# Altium footprint library Oscillator.PcbLib: 70 footprints (part 3 of 5)
Each footprint in its own frame and in the unit in brackets; x right, y up, seen from the top. Pads: shape width x height; smd on the part's side, far side on the other; paste and mask are expansions set on the pad; w line width, h text height; cw(c..) or ccw(c..) is an arc to the next point about the centre after c.
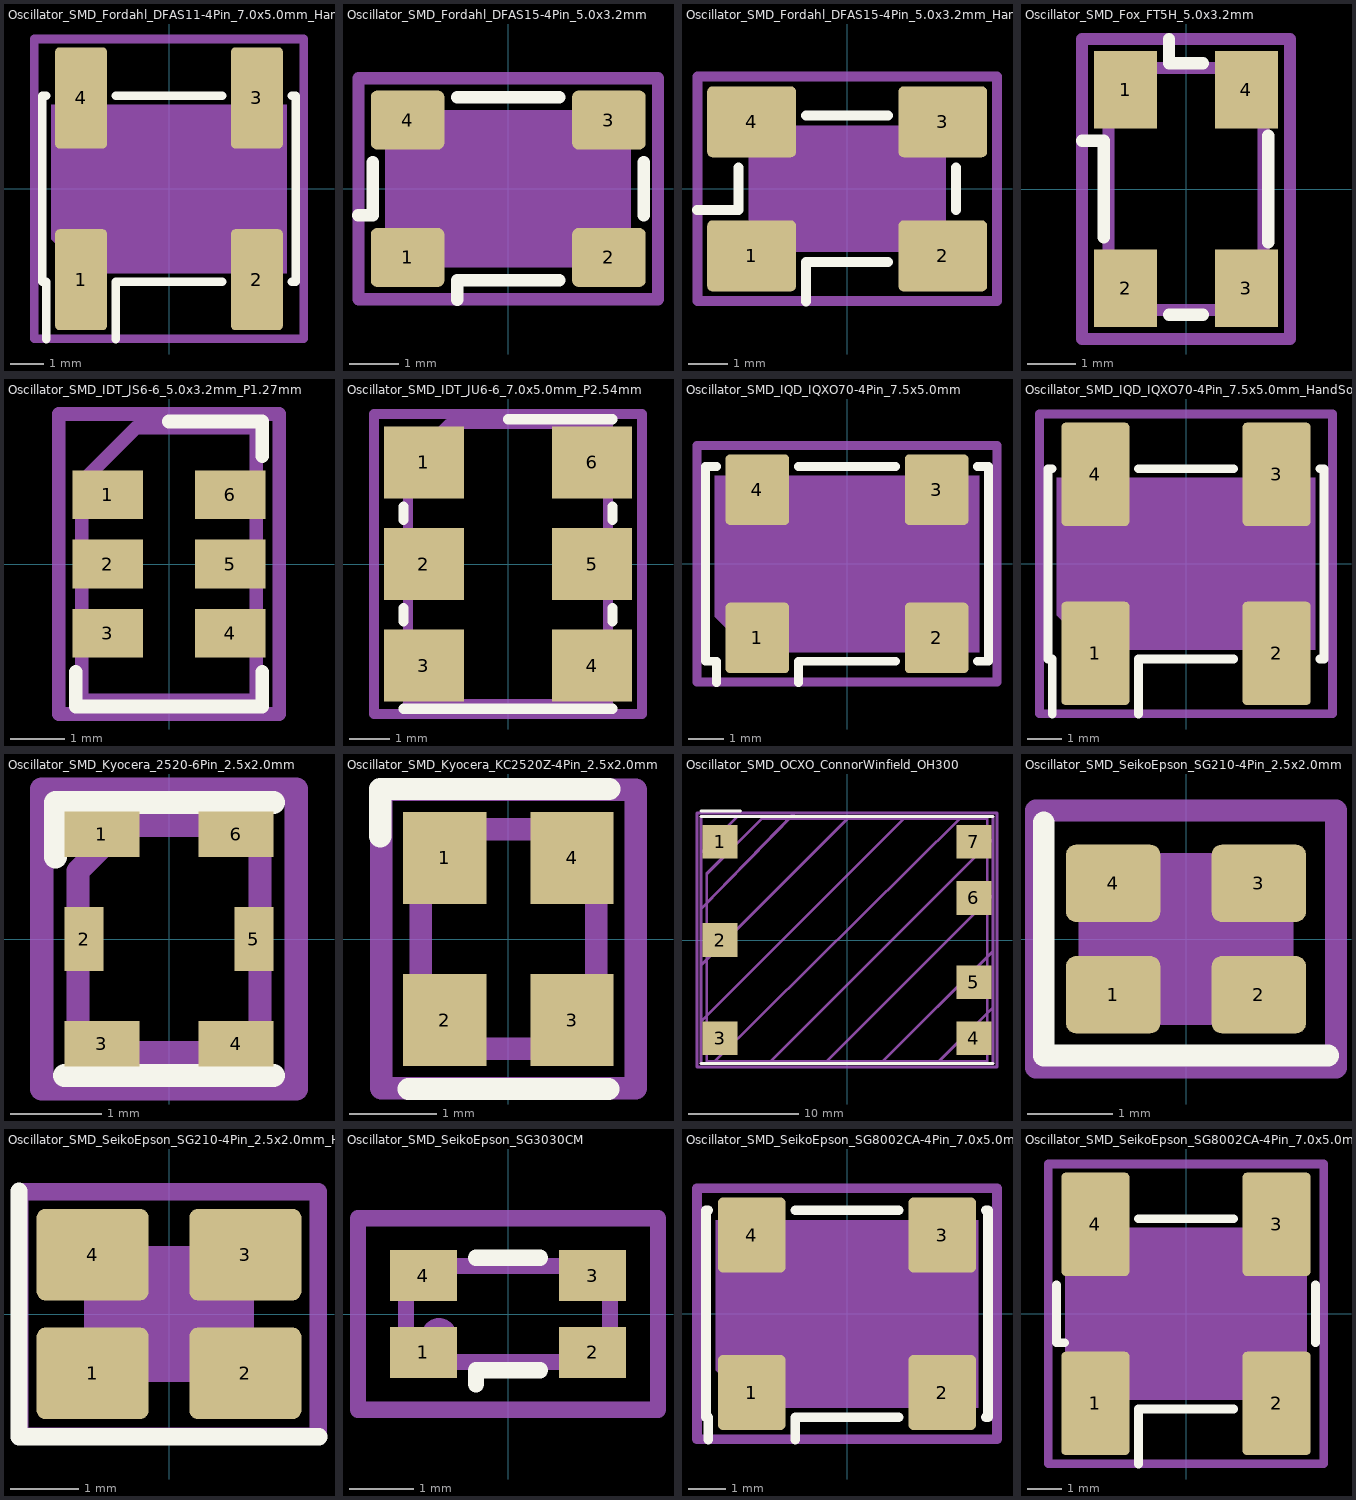
[diagram p2: the footprints below, top view; thin cyan lines are the x and y axes]

## Oscillator_SMD_Fordahl_DFAS11-4Pin_7.0x5.0mm_HandSoldering [mm]
pads (4):
  rrect16% 1.54x3 smd: 1(-2.61,-2.7) 2(2.61,-2.7) 3(2.61,2.7) 4(-2.61,2.7)
F.SilkS:
  lines w0.254: -3.64,-4.46 -3.64,-2.76 -3.76,-2.76 -3.76,2.76 -3.64,2.76 ; -1.58,-4.46 -1.58,-2.76 1.58,-2.76 ; -1.58,2.76 1.58,2.76 ; 3.64,-2.76 3.76,-2.76 3.76,2.76 3.64,2.76
Top Assembly:
  region: 3.5,-2.5 -2.5,-2.5 -3.5,-1.5 -3.5,2.5 3.5,2.5
  text "'.Designator'" at -4.047,-0.84 h1
Top Courtyard:
  lines w0.254: -4,-4.45 4,-4.45 4,4.45 -4,4.45 -4,-4.45
Top Designator:
  text ".Designator" at -7.652,-0.513 h1.52
Top Glue Points:
  circle w0.254: c0,0 r1

## Oscillator_SMD_Fordahl_DFAS15-4Pin_5.0x3.2mm [mm]
pads (4):
  rrect21% 1.5x1.2 smd: 1(-2.05,-1.4) 2(2.05,-1.4) 3(2.05,1.4) 4(-2.05,1.4)
F.SilkS:
  lines w0.254: -3.06,-0.54 -2.76,-0.54 -2.76,0.54 ; -1.04,-2.26 -1.04,-1.86 1.04,-1.86 ; -1.04,1.86 1.04,1.86 ; 2.76,-0.54 2.76,0.54
Top Assembly:
  region: 2.5,-1.6 -1.7,-1.6 -2.5,-0.8 -2.5,1.6 2.5,1.6
  text "'.Designator'" at -4.047,-0.84 h1
Top Courtyard:
  lines w0.254: -3.05,-2.25 3.05,-2.25 3.05,2.25 -3.05,2.25 -3.05,-2.25
Top Designator:
  text ".Designator" at -7.768,-0.513 h1.52
Top Glue Points:
  circle w0.254: c0,0 r0.25

## Oscillator_SMD_Fordahl_DFAS15-4Pin_5.0x3.2mm_HandSoldering [mm]
pads (4):
  rrect14% 2.25x1.8 smd: 1(-2.425,-1.7) 2(2.425,-1.7) 3(2.425,1.7) 4(-2.425,1.7)
F.SilkS:
  lines w0.254: -3.81,-0.54 -2.76,-0.54 -2.76,0.54 ; -1.04,-2.86 -1.04,-1.86 1.04,-1.86 ; -1.04,1.86 1.04,1.86 ; 2.76,-0.54 2.76,0.54
Top Assembly:
  region: 2.5,-1.6 -1.7,-1.6 -2.5,-0.8 -2.5,1.6 2.5,1.6
  text "'.Designator'" at -4.047,-0.84 h1
Top Courtyard:
  lines w0.254: -3.8,-2.85 -3.8,2.85 3.8,2.85 3.8,-2.85 -3.8,-2.85
Top Designator:
  text ".Designator" at -7.752,-0.513 h1.52
Top Glue Points:
  circle w0.254: c0,0 r0.25

## Oscillator_SMD_Fox_FT5H_5.0x3.2mm [mm]
pads (4):
  rect 1.3x1.6 smd: 1(-1.25,2.05) 2(-1.25,-2.05) 3(1.25,-2.05) 4(1.25,2.05)
F.SilkS:
  lines w0.254: -2.15,1 -1.7,1 -1.7,-1 ; -0.35,-2.6 0.35,-2.6 ; -0.35,3.1 -0.35,2.6 0.35,2.6 ; 1.7,-1.1 1.7,1.1
Top Assembly:
  lines w0.254: -1.6,-2.5 1.6,-2.5 1.6,2.5 -0.9,2.5 -1.6,1.7 -1.6,-2.5
  text "'.Designator'" at 0.84,-4.047 h1
Top Courtyard:
  lines w0.254: -2.15,-3.1 2.15,-3.1 2.15,3.1 -2.15,3.1 -2.15,-3.1
Top Designator:
  text ".Designator" at -7.618,-0.658 h1.52
3D body "Oscillator_SMD_Fox_FT5H_5.0x3.2mm.step": height 1.23, standoff 0, extent -1.6,-2.5 1.6,2.5

## Oscillator_SMD_IDT_JS6-6_5.0x3.2mm_P1.27mm [mm]
pads (6):
  rect 1.29x0.89 smd: 1(-1.125,1.27) 2(-1.125,0) 3(-1.125,-1.27) 4(1.125,-1.27) 5(1.125,0) 6(1.125,1.27)
F.SilkS:
  lines w0.254: -1.71,-1.98 -1.71,-2.61 1.71,-2.61 1.71,-1.98 ; 0,2.61 1.71,2.61 1.71,1.98
Top Assembly:
  lines w0.254: -1.6,-2.5 1.6,-2.5 1.6,2.5 -0.6,2.5 -1.6,1.5 -1.6,-2.5
  text "'.Designator'" at -3.023,-0.618 h0.75
Top Courtyard:
  lines w0.254: -2.02,-2.75 2.02,-2.75 2.02,2.75 -2.02,2.75 -2.02,-2.75
Top Designator:
  text ".Designator" at -7.718,-0.508 h1.52
3D body "Oscillator_SMD_IDT_JS6-6_5.0x3.2mm_P1.27mm.step": height 1, standoff 0, extent -1.6,-2.5 1.6,2.5

## Oscillator_SMD_IDT_JU6-6_7.0x5.0mm_P2.54mm [mm]
pads (6):
  rect 2x1.8 smd: 1(-2.1,2.54) 2(-2.1,0) 3(-2.1,-2.54) 4(2.1,-2.54) 5(2.1,0) 6(2.1,2.54)
F.SilkS:
  lines w0.254: -2.61,-3.62 2.61,-3.62 ; -2.61,-1.44 -2.61,-1.1 ; -2.61,1.1 -2.61,1.44 ; 0,3.62 2.61,3.62 ; 2.61,-1.44 2.61,-1.1 ; 2.61,1.1 2.61,1.44
Top Assembly:
  lines w0.254: -2.5,-3.5 -2.5,2.5 -1.5,3.5 2.5,3.5 2.5,-3.5 -2.5,-3.5
  text "'.Designator'" at -4.047,-0.84 h1
Top Courtyard:
  lines w0.254: -3.35,-3.75 -3.35,3.75 3.35,3.75 3.35,-3.75 -3.35,-3.75
Top Designator:
  text ".Designator" at -7.768,-0.508 h1.52

## Oscillator_SMD_IQD_IQXO70-4Pin_7.5x5.0mm [mm]
pads (4):
  rrect14% 1.8x2 smd: 1(-2.54,-2.1) 2(2.54,-2.1) 3(2.54,2.1) 4(-2.54,2.1)
F.SilkS:
  lines w0.254: -3.7,-3.36 -3.7,-2.76 -4.01,-2.76 -4.01,2.76 -3.7,2.76 ; -1.38,-3.36 -1.38,-2.76 1.38,-2.76 ; -1.38,2.76 1.38,2.76 ; 3.7,-2.76 4.01,-2.76 4.01,2.76 3.7,2.76
Top Assembly:
  region: 3.75,-2.5 -2.75,-2.5 -3.75,-1.5 -3.75,2.5 3.75,2.5
  text "'.Designator'" at -4.047,-0.84 h1
Top Courtyard:
  lines w0.254: -4.25,-3.35 -4.25,3.35 4.25,3.35 4.25,-3.35 -4.25,-3.35
Top Designator:
  text ".Designator" at -7.618,-0.513 h1.52
Top Glue Points:
  circle w0.254: c0,0 r1

## Oscillator_SMD_IQD_IQXO70-4Pin_7.5x5.0mm_HandSoldering [mm]
pads (4):
  rrect13% 1.98x3 smd: 1(-2.63,-2.6) 2(2.63,-2.6) 3(2.63,2.6) 4(-2.63,2.6)
F.SilkS:
  lines w0.254: -3.88,-4.36 -3.88,-2.76 -4.01,-2.76 -4.01,2.76 -3.88,2.76 ; -1.38,-4.36 -1.38,-2.76 1.38,-2.76 ; -1.38,2.76 1.38,2.76 ; 3.88,-2.76 4.01,-2.76 4.01,2.76 3.88,2.76
Top Assembly:
  region: 3.75,-2.5 -2.75,-2.5 -3.75,-1.5 -3.75,2.5 3.75,2.5
  text "'.Designator'" at -4.047,-0.84 h1
Top Courtyard:
  lines w0.254: -4.25,-4.35 4.25,-4.35 4.25,4.35 -4.25,4.35 -4.25,-4.35
Top Designator:
  text ".Designator" at -7.618,-0.513 h1.52
Top Glue Points:
  circle w0.254: c0,0 r1

## Oscillator_SMD_Kyocera_2520-6Pin_2.5x2.0mm [mm]
pads (6):
  rect 0.825x0.5 smd: 1(-0.737,1.15) 3(-0.737,-1.15) 4(0.737,-1.15) 6(0.737,1.15)
  rect 0.43x0.7 smd: 2(-0.935,0) 5(0.935,0)
F.SilkS:
  lines w0.254: -1.25,0.9 -1.25,1.5 1.15,1.5 ; -1.15,-1.5 1.15,-1.5
Top Assembly:
  lines w0.254: -1,-1.25 1,-1.25 1,1.25 -0.5,1.25 -1,0.75 -1,-1.25
  text "'.Designator'" at 0.42,-2.023 h0.5
Top Courtyard:
  lines w0.254: -1.4,-1.65 1.4,-1.65 1.4,1.65 -1.4,1.65 -1.4,-1.65
Top Designator:
  text ".Designator" at -7.618,-0.583 h1.52

## Oscillator_SMD_Kyocera_KC2520Z-4Pin_2.5x2.0mm [mm]
pads (4):
  rect 0.95x1.05 smd: 1(-0.725,0.925) 2(-0.725,-0.925) 3(0.725,-0.925) 4(0.725,0.925)
F.SilkS:
  lines w0.254: -1.46,1.17 -1.46,1.71 1.15,1.71 ; -1.14,-1.71 1.14,-1.71
Top Assembly:
  lines w0.254: -1,-1.25 1,-1.25 1,1.25 -0.5,1.25 -1,0.75 -1,-1.25
  text "'.Designator'" at -2.033,-0.49 h0.5
Top Courtyard:
  lines w0.254: -1.45,-1.7 1.45,-1.7 1.45,1.7 -1.45,1.7 -1.45,-1.7
Top Designator:
  text ".Designator" at -7.703,-0.508 h1.52

## Oscillator_SMD_OCXO_ConnorWinfield_OH300 [mil]
pads (7):
  rect 125x120 smd: 1(-452.5,350) 2(-452.5,0) 3(-452.5,-350) 4(452.5,-350) 5(452.5,-150) 6(452.5,150) 7(452.5,350)
F.SilkS:
  lines w10: -520,-440 520,-440 ; -520,440 520,440 ; -520,460 -380,460
Top Assembly:
  lines w10: -500,-433.07 -500,236.22 -303.15,433.07 500,433.07 500,-433.07 -500,-433.07
  text "'.Designator'" at -159.32,-33.08 h39.37
Top Courtyard:
  lines w10: -534.65,-452.76 -534.65,452.76 534.65,452.76 534.65,-452.76 -534.65,-452.76
Top Designator:
  text ".Designator" at -299.9,-16.37 h60
Dwgs.User:
  lines w10: -520,-290 210,440 ; -520,-90 10,440 ; -520,110 -190,450 ; -520,310 -390,440 ; -480,-440 410,440 ; -280,-440 520,360 ; -80,-440 520,160 ; 120,-440 520,-40 ; 320,-440 520,-240 ; -520,-440 -520,440 520,440 520,-440 -520,-440
Cmts.User:
  text "Note1: top layer is keepout" at -412.56,203.14 h39.37
  text "Note2: 2nd layer GND" at -297.37,125.33 h39.37

## Oscillator_SMD_SeikoEpson_SG210-4Pin_2.5x2.0mm [mm]
pads (4):
  rrect25% 1.1x0.9 smd: 1(-0.85,-0.65) 2(0.85,-0.65) 3(0.85,0.65) 4(-0.85,0.65)
F.SilkS:
  lines w0.254: -1.66,1.36 -1.66,-1.36 1.66,-1.36
Top Assembly:
  region: 1.25,-1 -0.75,-1 -1.25,-0.5 -1.25,1 1.25,1
  text "'.Designator'" at -2.506,-0.518 h0.62
Top Courtyard:
  lines w0.254: -1.75,-1.5 -1.75,1.5 1.75,1.5 1.75,-1.5 -1.75,-1.5
Top Designator:
  text ".Designator" at -7.708,-0.508 h1.52
3D body "Oscillator_SMD_SeikoEpson_SG210-4Pin_2.5x2.0mm.step": height 0.8, standoff 0, extent -1.25,-1 1.25,1

## Oscillator_SMD_SeikoEpson_SG210-4Pin_2.5x2.0mm_HandSoldering [mm]
pads (4):
  rrect19% 1.65x1.35 smd: 1(-1.125,-0.875) 2(1.125,-0.875) 3(1.125,0.875) 4(-1.125,0.875)
F.SilkS:
  lines w0.254: -2.21,1.81 -2.21,-1.81 2.21,-1.81
Top Assembly:
  region: 1.25,-1 -0.75,-1 -1.25,-0.5 -1.25,1 1.25,1
  text "'.Designator'" at -2.506,-0.518 h0.62
Top Courtyard:
  lines w0.254: -2.2,-1.8 2.2,-1.8 2.2,1.8 -2.2,1.8 -2.2,-1.8
Top Designator:
  text ".Designator" at -7.708,-0.508 h1.52

## Oscillator_SMD_SeikoEpson_SG3030CM [mm]
pads (4):
  rect 1.05x0.8 smd: 1(-1.325,-0.6) 2(1.325,-0.6) 3(1.325,0.6) 4(-1.325,0.6)
F.SilkS:
  lines w0.254: -0.5,-1.1 -0.5,-0.88 0.5,-0.88 ; -0.5,0.88 0.5,0.88
Top Assembly:
  circle w0.254: c-1.08,-0.34 r0.149
  lines w0.254: -1.6,-0.75 1.6,-0.75 1.6,0.75 -1.6,0.75 -1.6,-0.75
  text "'.Designator'" at -1.229,-0.267 h0.3
Top Courtyard:
  lines w0.254: -2.35,-1.5 2.35,-1.5 2.35,1.5 -2.35,1.5 -2.35,-1.5
Top Designator:
  text ".Designator" at -7.618,-0.508 h1.52

## Oscillator_SMD_SeikoEpson_SG8002CA-4Pin_7.0x5.0mm [mm]
pads (4):
  rrect14% 1.8x2 smd: 1(-2.54,-2.1) 2(2.54,-2.1) 3(2.54,2.1) 4(-2.54,2.1)
F.SilkS:
  lines w0.254: -3.7,-3.36 -3.7,-2.76 -3.76,-2.76 -3.76,2.76 -3.7,2.76 ; -1.38,-3.36 -1.38,-2.76 1.38,-2.76 ; -1.38,2.76 1.38,2.76 ; 3.7,-2.76 3.76,-2.76 3.76,2.76 3.7,2.76
Top Assembly:
  region: 3.5,-2.5 -2.5,-2.5 -3.5,-1.5 -3.5,2.5 3.5,2.5
  text "'.Designator'" at -4.047,-0.84 h1
Top Courtyard:
  lines w0.254: -4,-3.35 4,-3.35 4,3.35 -4,3.35 -4,-3.35
Top Designator:
  text ".Designator" at -7.652,-0.513 h1.52
Top Glue Points:
  circle w0.254: c0,0 r1

## Oscillator_SMD_SeikoEpson_SG8002CA-4Pin_7.0x5.0mm_HandSoldering [mm]
pads (4):
  rrect13% 1.98x3 smd: 1(-2.63,-2.6) 2(2.63,-2.6) 3(2.63,2.6) 4(-2.63,2.6)
F.SilkS:
  lines w0.254: -3.76,0.84 -3.76,-0.84 -3.52,-0.84 ; -1.38,-4.36 -1.38,-2.76 1.38,-2.76 ; -1.38,2.76 1.38,2.76 ; 3.76,-0.84 3.76,0.84
Top Assembly:
  region: 3.5,-2.5 -2.5,-2.5 -3.5,-1.5 -3.5,2.5 3.5,2.5
  text "'.Designator'" at -4.047,-0.84 h1
Top Courtyard:
  lines w0.254: -4,-4.35 4,-4.35 4,4.35 -4,4.35 -4,-4.35
Top Designator:
  text ".Designator" at -7.652,-0.513 h1.52
Top Glue Points:
  circle w0.254: c0,0 r1